# Altium integrated library LORA-E32.IntLib: 1 symbol
Pins are listed as number, name and electrical type; pins without a type are passive.

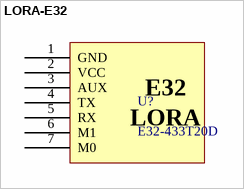
[diagram p0: symbol LORA-E32]

## LORA-E32
designator U?, comment E32-433T20D
Design By @Alixahedi
footprint LORA-E32 (Design By @Alixahedi)
pins: 1 GND, 2 VCC, 3 AUX, 4 TX, 5 RX, 6 M1, 7 M0
text: E32; LORA